# Altium schematic symbol library SN74LVC1G11DCKR.SchLib: 1 symbol
Pins are listed as number, name and electrical type; pins without a type are passive.

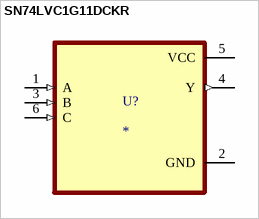
[diagram p0: symbol SN74LVC1G11DCKR]

## SN74LVC1G11DCKR
designator U?
MF: {'manufacturer': u'Texas Instruments'}; MP: SN74LVC1G11DCKR; Package: None; Price: None; Value: *; Availability: Unavailable
footprint SOT65P210X110-6N
pins: 1 A (in), 2 GND (power), 3 B (in), 4 Y (out), 5 VCC (power), 6 C (in)